# EAGLE library part TI_OPA300 (library Tristan+Robitaille_s+Library)
Texas Instruments 16-Bit CMOS 150MHz Op Amp Technical Specifications: Bandwidth: 150MHz Input voltage: 2.7V to 5.5V Distortion: 0.003% Current draw: 9.5mA @ 5.5V Shutdown current draw: 5µA Datasheet <http://www.ti.com/lit/ds/symlink/opa300.pdf> Digi-Key part #: OPA300AIDG4-ND <http://www.digikey.ca/product-detail/en/texas-instruments/OPA300AIDG4/OPA300AIDG4-ND/1572423> Mouser part #: 595-OPA301AID <http://www.mouser.com/ProductDetail/Texas-Instruments/OPA301AID/?qs=sGAEpiMZZMutXGli8Ay4kIKSYmYm6QhIlOFzIjNDeq4%3d> Manufacturer part #: OPA300AIDG4
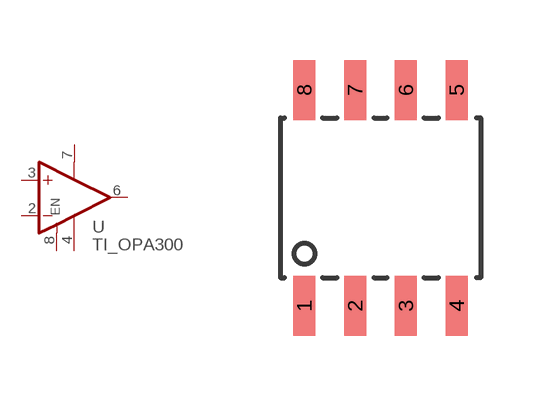
[diagram p5: symbol with the pads of SOIC8; footprint SOIC8]

Designator prefix U

## TI_OPA300 (DIGIKEY#: OPA300AIDG4-ND; MANF: OPA300AIDG4 16-Bit CMOS 150MHz Op Amp; MANF#: OPA300AIDG4; MOUSER#: 595-OPA301AID)  [SOIC8]
2  -IN  in
3  +IN  in
4  V-
6  OUT  out
7  V+
8  EN  in

## Footprint SOIC8 (pad centres in mm)
Small Outline IC
smd 0.55 x 1.5: 1 -1.905,-2.7; 2 -0.635,-2.7; 3 0.635,-2.7; 4 1.905,-2.7; 5 1.905,2.7; 6 0.635,2.7; 7 -0.635,2.7; 8 -1.905,2.7